# EAGLE library part BQ25892 (library FPV-Auto)
BQ25892 bq25892 I2C Controlled Single Cell 5-A Fast Charger with MaxChargeTM Technology for High Input Voltage and Adjustable Voltage USB On-the-Go Boost Mode datasheet (Rev. C) Links Datasheet <https://www.ti.com/lit/gpn/bq25892> Product website <https://www.ti.com/product/BQ25892>
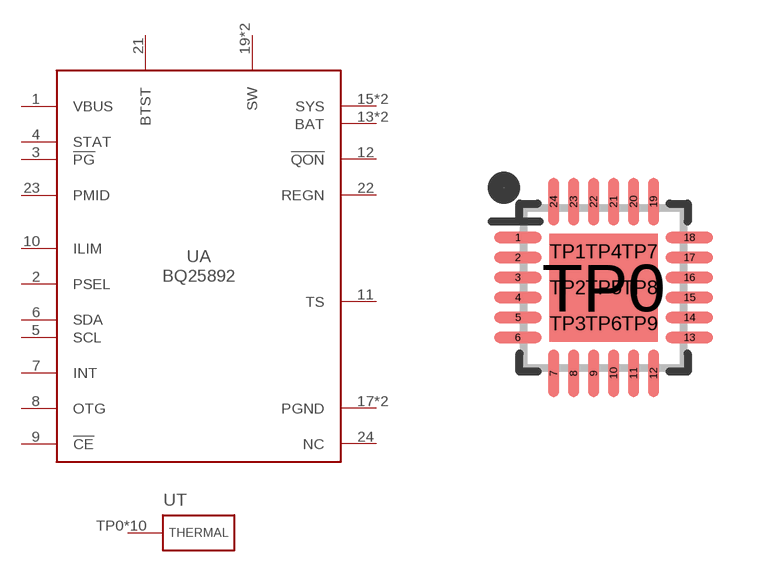
[diagram p1: symbol with the pads of RTW(S-PWQFN-N24)_LONG; footprint RTW(S-PWQFN-N24)_LONG]

Designator prefix U; gates A=BQ25890 T=THERMAL

## BQ25892  [RTW(S-PWQFN-N24)_LONG]
1  A:VBUS  pwr
2  A:PSEL  in
3  A:!PG  oc
4  A:STAT  oc
5  A:SCL  in
6  A:SDA
7  A:INT  oc
8  A:OTG  in
9  A:!CE  in
10  A:ILIM  in
11  A:TS  in
12  A:!QON  in
13  A:BAT  pwr
14  A:BAT  pwr
15  A:SYS  sup
16  A:SYS  sup
17  A:PGND  pwr
18  A:PGND  pwr
19  A:SW  pwr
20  A:SW  pwr
21  A:BTST  pwr
22  A:REGN  pwr
23  A:PMID  out
24  A:NC  nc
TP0  T:GND  pwr
TP1  T:GND  pwr
TP2  T:GND  pwr
TP3  T:GND  pwr
TP4  T:GND  pwr
TP5  T:GND  pwr
TP6  T:GND  pwr
TP7  T:GND  pwr
TP8  T:GND  pwr
TP9  T:GND  pwr

## Footprint RTW(S-PWQFN-N24)_LONG (pad centres in mm)
smd 1.19 x 0.28: 1 -2.145,1.25; 2 -2.145,0.75; 3 -2.145,0.25; 4 -2.145,-0.25; 5 -2.145,-0.75; 6 -2.145,-1.25; 13 2.145,-1.25; 14 2.145,-0.75; 15 2.145,-0.25; 16 2.145,0.25; 17 2.145,0.75; 18 2.145,1.25
smd 0.28 x 1.19: 7 -1.25,-2.145; 8 -0.75,-2.145; 9 -0.25,-2.145; 10 0.25,-2.145; 11 0.75,-2.145; 12 1.25,-2.145; 19 1.25,2.145; 20 0.75,2.145; 21 0.25,2.145; 22 -0.25,2.145; 23 -0.75,2.145; 24 -1.25,2.145
smd 2.7 x 2.7: TP0 0,0
drill 0.3 pad 0.8: TP1 -0.9,0.9; TP2 -0.9,0; TP3 -0.9,-0.9; TP4 0,0.9; TP5 0,0; TP6 0,-0.9; TP7 0.9,0.9; TP8 0.9,0; TP9 0.9,-0.9